# Altium integrated library Dallas Interface Terminator.IntLib: 14 symbols
Pins are listed as number, name and electrical type; pins without a type are passive.

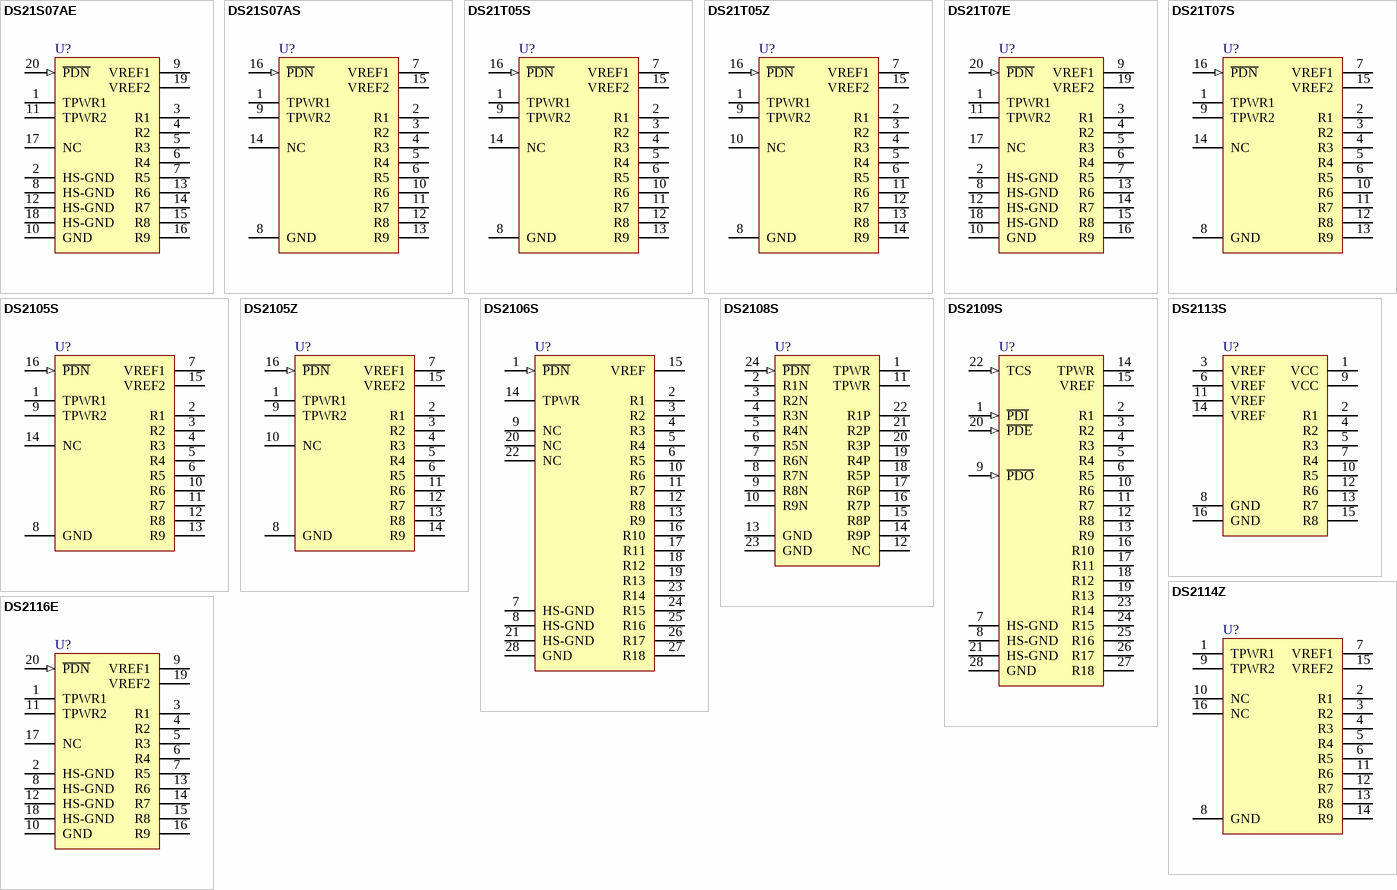
[diagram p0: symbols DS21S07AE to DS2116E]

## DS21S07AE
designator U?
SCSI Terminator; Note: Pin number 17 is Not Connected (NC); Published: 13-Oct-2000; LatestRevisionDate: 20-Nov-2009; LatestRevisionNote: IPC-7351 Footprint Added.; DatasheetVersion: 27-Feb-1998; PackageReference: TSSOP20; Publisher: Altium Limited; PackageDescription: 20-Pin Thin Small Outline Package 0.65 mm Pitch; ComponentLink1Description: Manufacturer Link; ComponentLink1URL: http://www.maxim-ic.com/; ComponentLink2Description: Datasheet; ComponentLink2URL: http://pdfserv.maxim-ic.com/en/ds/DS21S07A.pdf
footprint TSSOP20_N (TSOP, 20-Leads, Body 6.5x4.4mm, Pitch 0.65mm, IPC Medium Density)
footprint TSSOP20_L (TSOP, 20-Leads, Body 6.5x4.4mm, Pitch 0.65mm, IPC High Density)
footprint TSSOP20_M (TSOP, 20-Leads, Body 6.5x4.4mm, Pitch 0.65mm, IPC Low Density)
pins: 1 TPWR1 (power), 2 HS-GND (power), 3 R1, 4 R2, 5 R3, 6 R4, 7 R5, 8 HS-GND (power), 9 VREF1 (power), 10 GND (power), 11 TPWR2 (power), 12 HS-GND (power), 13 R6, 14 R7, 15 R8, 16 R9, 17 NC, 18 HS-GND (power), 19 VREF2 (power), 20 ~{PDN} (in)

## DS21S07AS
designator U?
SCSI Terminator; Note: Pin number 14 is Not Connected (NC); Published: 13-Oct-2000; LatestRevisionDate: 13-Apr-2006; LatestRevisionNote: IPC-7351 Footprint Added.; DatasheetVersion: 27-Feb-1998; PackageVersion: 1999; PackageReference: SOIC16W; Publisher: Altium Limited; PackageDescription: 16-Pin Small Outline Integrated Circuit 1.27 mm Pitch; ComponentLink1Description: Manufacturer Link; ComponentLink1URL: http://www.maxim-ic.com/; ComponentLink2Description: Datasheet; ComponentLink2URL: http://pdfserv.maxim-ic.com/en/ds/DS21S07A.pdf
footprint SOIC16W_N (SOIC, 16-Leads, Body 10.3x7.5mm, Pitch 1.27mm, IPC Medium Density)
footprint SOIC16W_L (SOIC, 16-Leads, Body 10.3x7.5mm, Pitch 1.27mm, IPC High Density)
footprint SOIC16W_M (SOIC, 16-Leads, Body 10.3x7.5mm, Pitch 1.27mm, IPC Low Density)
pins: 1 TPWR1 (power), 2 R1, 3 R2, 4 R3, 5 R4, 6 R5, 7 VREF1 (power), 8 GND (power), 9 TPWR2 (power), 10 R6, 11 R7, 12 R8, 13 R9, 14 NC, 15 VREF2 (power), 16 ~{PDN} (in)

## DS21T05S
designator U?
SCSI Terminator; Note: Pin number 14 is Not Connected (NC); Published: 13-Oct-2000; LatestRevisionDate: 13-Apr-2006; LatestRevisionNote: IPC-7351 Footprint Added.; DatasheetVersion: 27-Feb-1998; PackageVersion: 1999; PackageReference: SOIC16W; Publisher: Altium Limited; PackageDescription: 16-Pin Small Outline Integrated Circuit 1.27 mm Pitch; ComponentLink1Description: Manufacturer Link; ComponentLink1URL: http://www.maxim-ic.com/; ComponentLink2Description: Datasheet; ComponentLink2URL: http://pdfserv.maxim-ic.com/en/ds/DS21T05.pdf
footprint SOIC16W_N (SOIC, 16-Leads, Body 10.3x7.5mm, Pitch 1.27mm, IPC Medium Density)
footprint SOIC16W_L (SOIC, 16-Leads, Body 10.3x7.5mm, Pitch 1.27mm, IPC High Density)
footprint SOIC16W_M (SOIC, 16-Leads, Body 10.3x7.5mm, Pitch 1.27mm, IPC Low Density)
pins: 1 TPWR1 (power), 2 R1, 3 R2, 4 R3, 5 R4, 6 R5, 7 VREF1 (power), 8 GND (power), 9 TPWR2 (power), 10 R6, 11 R7, 12 R8, 13 R9, 14 NC, 15 VREF2 (power), 16 ~{PDN} (in)

## DS21T05Z
designator U?
SCSI Terminator; Note: Pin number 10 is Not Connected (NC); Published: 13-Oct-2000; LatestRevisionDate: 13-Apr-2006; LatestRevisionNote: IPC-7351 Footprint Added.; DatasheetVersion: 27-Feb-1998; PackageVersion: 1999; PackageReference: SOIC16N; Publisher: Altium Limited; PackageDescription: 16-Pin Small Outline Integrated Circuit 1.27 mm Pitch; Code_IPC: SOIC127P600-16; ComponentLink1Description: Manufacturer Link; ComponentLink1URL: http://www.maxim-ic.com/; ComponentLink2Description: Datasheet; ComponentLink2URL: http://pdfserv.maxim-ic.com/en/ds/DS21T05.pdf
footprint SOIC16N_N (SOIC, 16-Leads, Body 9.9x3.9mm, Pitch 1.27mm, IPC Medium Density)
footprint SOIC16N_L (SOIC, 16-Leads, Body 9.9x3.9mm, Pitch 1.27mm, IPC High Density)
footprint SOIC16N_M (SOIC, 16-Leads, Body 9.9x3.9mm, Pitch 1.27mm, IPC Low Density)
pins: 1 TPWR1 (power), 2 R1, 3 R2, 4 R3, 5 R4, 6 R5, 7 VREF1 (power), 8 GND (power), 9 TPWR2 (power), 10 NC, 11 R6, 12 R7, 13 R8, 14 R9, 15 VREF2 (power), 16 ~{PDN} (in)

## DS21T07E
designator U?
SCSI Terminator; Note: Pin number 17 is Not Connected (NC); Published: 13-Oct-2000; LatestRevisionDate: 20-Nov-2009; LatestRevisionNote: IPC-7351 Footprint Added.; DatasheetVersion: Jul-1998; PackageReference: TSSOP20; Publisher: Altium Limited; PackageDescription: 20-Pin Thin Small Outline Package 0.65 mm Pitch; ComponentLink1Description: Manufacturer Link; ComponentLink1URL: http://www.maxim-ic.com/; ComponentLink2Description: Datasheet; ComponentLink2URL: http://pdfserv.maxim-ic.com/en/ds/DS21T07.pdf
footprint TSSOP20_N (TSOP, 20-Leads, Body 6.5x4.4mm, Pitch 0.65mm, IPC Medium Density)
footprint TSSOP20_L (TSOP, 20-Leads, Body 6.5x4.4mm, Pitch 0.65mm, IPC High Density)
footprint TSSOP20_M (TSOP, 20-Leads, Body 6.5x4.4mm, Pitch 0.65mm, IPC Low Density)
pins: 1 TPWR1 (power), 2 HS-GND (power), 3 R1, 4 R2, 5 R3, 6 R4, 7 R5, 8 HS-GND (power), 9 VREF1 (power), 10 GND (power), 11 TPWR2 (power), 12 HS-GND (power), 13 R6, 14 R7, 15 R8, 16 R9, 17 NC, 18 HS-GND (power), 19 VREF2 (power), 20 ~{PDN} (in)

## DS21T07S
designator U?
SCSI Terminator; Note: Pin number 14 is Not Connected (NC); Published: 13-Oct-2000; LatestRevisionDate: 13-Apr-2006; LatestRevisionNote: IPC-7351 Footprint Added.; DatasheetVersion: Jul-1998; PackageVersion: 1999; PackageReference: SOIC16W; Publisher: Altium Limited; PackageDescription: 16-Pin Small Outline Integrated Circuit 1.27 mm Pitch; ComponentLink1Description: Manufacturer Link; ComponentLink1URL: http://www.maxim-ic.com/; ComponentLink2Description: Datasheet; ComponentLink2URL: http://pdfserv.maxim-ic.com/en/ds/DS21T07.pdf
footprint SOIC16W_N (SOIC, 16-Leads, Body 10.3x7.5mm, Pitch 1.27mm, IPC Medium Density)
footprint SOIC16W_L (SOIC, 16-Leads, Body 10.3x7.5mm, Pitch 1.27mm, IPC High Density)
footprint SOIC16W_M (SOIC, 16-Leads, Body 10.3x7.5mm, Pitch 1.27mm, IPC Low Density)
pins: 1 TPWR1 (power), 2 R1, 3 R2, 4 R3, 5 R4, 6 R5, 7 VREF1 (power), 8 GND (power), 9 TPWR2 (power), 10 R6, 11 R7, 12 R8, 13 R9, 14 NC, 15 VREF2 (power), 16 ~{PDN} (in)

## DS2105S
designator U?
SCSI Terminator; Note: Pin number 14 is Not Connected (NC); Published: 13-Oct-2000; LatestRevisionDate: 13-Apr-2006; LatestRevisionNote: IPC-7351 Footprint Added.; DatasheetVersion: 26-Feb-1998; PackageVersion: 1999; PackageReference: SOIC16W; Publisher: Altium Limited; PackageDescription: 16-Pin Small Outline Integrated Circuit 1.27 mm Pitch; ComponentLink1Description: Manufacturer Link; ComponentLink1URL: http://www.maxim-ic.com/; ComponentLink2Description: Datasheet; ComponentLink2URL: http://pdfserv.maxim-ic.com/en/ds/DS2105.pdf; ComponentLink3Description: Discontinuation Notice; ComponentLink3URL: http://www.maxim-ic.com/qa/pdfs/non-obsolescence-letter.pdf
footprint SOIC16W_N (SOIC, 16-Leads, Body 10.3x7.5mm, Pitch 1.27mm, IPC Medium Density)
footprint SOIC16W_L (SOIC, 16-Leads, Body 10.3x7.5mm, Pitch 1.27mm, IPC High Density)
footprint SOIC16W_M (SOIC, 16-Leads, Body 10.3x7.5mm, Pitch 1.27mm, IPC Low Density)
pins: 1 TPWR1 (power), 2 R1, 3 R2, 4 R3, 5 R4, 6 R5, 7 VREF1 (power), 8 GND (power), 9 TPWR2 (power), 10 R6, 11 R7, 12 R8, 13 R9, 14 NC, 15 VREF2 (power), 16 ~{PDN} (in)

## DS2105Z
designator U?
SCSI Terminator; Note: Pin number 10 is Not Connected (NC); Published: 13-Oct-2000; LatestRevisionDate: 13-Apr-2006; LatestRevisionNote: IPC-7351 Footprint Added.; DatasheetVersion: 26-Feb-1998; PackageVersion: 1999; PackageReference: SOIC16N; Publisher: Altium Limited; PackageDescription: 16-Pin Small Outline Integrated Circuit 1.27 mm Pitch; Code_IPC: SOIC127P600-16; ComponentLink1Description: Manufacturer Link; ComponentLink1URL: http://www.maxim-ic.com/; ComponentLink2Description: Datasheet; ComponentLink2URL: http://pdfserv.maxim-ic.com/en/ds/DS2105.pdf; ComponentLink3Description: Discontinuation Notice; ComponentLink3URL: http://www.maxim-ic.com/qa/pdfs/non-obsolescence-letter.pdf
footprint SOIC16N_N (SOIC, 16-Leads, Body 9.9x3.9mm, Pitch 1.27mm, IPC Medium Density)
footprint SOIC16N_L (SOIC, 16-Leads, Body 9.9x3.9mm, Pitch 1.27mm, IPC High Density)
footprint SOIC16N_M (SOIC, 16-Leads, Body 9.9x3.9mm, Pitch 1.27mm, IPC Low Density)
pins: 1 TPWR1 (power), 2 R1, 3 R2, 4 R3, 5 R4, 6 R5, 7 VREF1 (power), 8 GND (power), 9 TPWR2 (power), 10 NC, 11 R6, 12 R7, 13 R8, 14 R9, 15 VREF2 (power), 16 ~{PDN} (in)

## DS2106S
designator U?
SCSI Terminator; Note: Pin numbers 9, 20 and 22 are Not Connected (NC); Published: 13-Oct-2000; LatestRevisionDate: 13-Apr-2006; LatestRevisionNote: IPC-7351 Footprint Added.; DatasheetVersion: 26-Feb-1998; PackageVersion: 1999; PackageReference: SOIC28N; Publisher: Altium Limited; PackageDescription: 28-Pin Small Outline Integrated Circuit 1.27 mm Pitch; ComponentLink1Description: Manufacturer Link; ComponentLink1URL: http://www.maxim-ic.com/; ComponentLink2Description: Datasheet; ComponentLink2URL: http://pdfserv.maxim-ic.com/en/ds/DS2106.pdf; ComponentLink3Description: Discontinuation Notice; ComponentLink3URL: http://www.maxim-ic.com/qa/pdfs/non-obsolescence-letter.pdf
footprint SOIC28N_N (SOIC, 28-Leads, Body 17.9x7.5mm, Pitch 1.27mm, IPC Medium Density)
footprint SOIC28N_L (SOIC, 28-Leads, Body 17.9x7.5mm, Pitch 1.27mm, IPC High Density)
footprint SOIC28N_M (SOIC, 28-Leads, Body 17.9x7.5mm, Pitch 1.27mm, IPC Low Density)
pins: 1 ~{PDN} (in), 2 R1, 3 R2, 4 R3, 5 R4, 6 R5, 7 HS-GND (power), 8 HS-GND (power), 9 NC, 10 R6, 11 R7, 12 R8, 13 R9, 14 TPWR (power), 15 VREF, 16 R10, 17 R11, 18 R12, 19 R13, 20 NC, 21 HS-GND (power), 22 NC, 23 R14, 24 R15, 25 R16, 26 R17, 27 R18, 28 GND (power)

## DS2108S
designator U?
Differential SCSI Switchable Terminator; Note: Pin number 12 is Not Connected (NC); Published: 13-Oct-2000; LatestRevisionDate: 13-Apr-2006; LatestRevisionNote: IPC-7351 Footprint Added.; DatasheetVersion: 26-Feb-1998; PackageVersion: 1999; PackageReference: SOIC24N; Publisher: Altium Limited; PackageDescription: 24-Pin Small Outline Integrated Circuit 1.27 mm Pitch; Code_IPC: SOIC127P1047-24; ComponentLink1Description: Manufacturer Link; ComponentLink1URL: http://www.maxim-ic.com/; ComponentLink2Description: Datasheet; ComponentLink2URL: http://pdfserv.maxim-ic.com/en/ds/DS2108.pdf; ComponentLink3Description: Discontinuation Notice; ComponentLink3URL: http://www.maxim-ic.com/qa/pdfs/non-obsolescence-letter.pdf
footprint SOIC24N_N (SOIC, 24-Leads, Body 15.4x7.5mm, Pitch 1.27mm, IPC Medium Density)
footprint SOIC24N_L (SOIC, 24-Leads, Body 15.4x7.5mm, Pitch 1.27mm, IPC High Density)
footprint SOIC24N_M (SOIC, 24-Leads, Body 15.4x7.5mm, Pitch 1.27mm, IPC Low Density)
pins: 1 TPWR (power), 2 R1N, 3 R2N, 4 R3N, 5 R4N, 6 R5N, 7 R6N, 8 R7N, 9 R8N, 10 R9N, 11 TPWR (power), 12 NC, 13 GND (power), 14 R9P, 15 R8P, 16 R7P, 17 R6P, 18 R5P, 19 R4P, 20 R3P, 21 R2P, 22 R1P, 23 GND (power), 24 ~{PDN} (in)

## DS2109S
designator U?
Plug and Play SCSI Terminator; Published: 13-Oct-2000; LatestRevisionDate: 13-Apr-2006; LatestRevisionNote: IPC-7351 Footprint Added.; DatasheetVersion: 26-Feb-1998; PackageVersion: 1999; PackageReference: SOIC28N; Publisher: Altium Limited; PackageDescription: 28-Pin Small Outline Integrated Circuit 1.27 mm Pitch; ComponentLink1Description: Manufacturer Link; ComponentLink1URL: http://www.maxim-ic.com/; ComponentLink2Description: Datasheet; ComponentLink2URL: http://pdfserv.maxim-ic.com/en/ds/DS2109.pdf; ComponentLink3Description: Discontinuation Notice; ComponentLink3URL: http://www.maxim-ic.com/qa/pdfs/non-obsolescence-letter.pdf
footprint SOIC28N_N (SOIC, 28-Leads, Body 17.9x7.5mm, Pitch 1.27mm, IPC Medium Density)
footprint SOIC28N_L (SOIC, 28-Leads, Body 17.9x7.5mm, Pitch 1.27mm, IPC High Density)
footprint SOIC28N_M (SOIC, 28-Leads, Body 17.9x7.5mm, Pitch 1.27mm, IPC Low Density)
pins: 1 ~{PDI} (in), 2 R1, 3 R2, 4 R3, 5 R4, 6 R5, 7 HS-GND (power), 8 HS-GND (power), 9 ~{PDO} (in), 10 R6, 11 R7, 12 R8, 13 R9, 14 TPWR (power), 15 VREF (power), 16 R10, 17 R11, 18 R12, 19 R13, 20 ~{PDE} (in), 21 HS-GND (power), 22 TCS (in), 23 R14, 24 R15, 25 R16, 26 R17, 27 R18, 28 GND (power)

## DS2113S
designator U?
GTL Terminator; Published: 13-Oct-2000; LatestRevisionDate: 13-Apr-2006; LatestRevisionNote: IPC-7351 Footprint Added.; DatasheetVersion: 26-Feb-1998; PackageVersion: 1999; PackageReference: SOIC16W; Publisher: Altium Limited; PackageDescription: 16-Pin Small Outline Integrated Circuit 1.27 mm Pitch; ComponentLink1Description: Manufacturer Link; ComponentLink1URL: http://www.maxim-ic.com/
footprint SOIC16W_N (SOIC, 16-Leads, Body 10.3x7.5mm, Pitch 1.27mm, IPC Medium Density)
footprint SOIC16W_L (SOIC, 16-Leads, Body 10.3x7.5mm, Pitch 1.27mm, IPC High Density)
footprint SOIC16W_M (SOIC, 16-Leads, Body 10.3x7.5mm, Pitch 1.27mm, IPC Low Density)
pins: 1 VCC (power), 2 R1, 3 VREF (power), 4 R2, 5 R3, 6 VREF (power), 7 R4, 8 GND (power), 9 VCC (power), 10 R5, 11 VREF (power), 12 R6, 13 R7, 14 VREF (power), 15 R8, 16 GND (power)

## DS2114Z
designator U?
SCSI Terminator; Note: Pin numbers 10 and 16 are Not Connected (NC); Published: 13-Oct-2000; LatestRevisionDate: 13-Apr-2006; LatestRevisionNote: IPC-7351 Footprint Added.; DatasheetVersion: Jul-1998; PackageVersion: 1999; PackageReference: SOIC16N; Publisher: Altium Limited; PackageDescription: 16-Pin Small Outline Integrated Circuit 1.27 mm Pitch; Code_IPC: SOIC127P600-16; ComponentLink1Description: Manufacturer Link; ComponentLink1URL: http://www.maxim-ic.com/; ComponentLink2Description: Datasheet; ComponentLink2URL: http://pdfserv.maxim-ic.com/en/ds/DS2114.pdf
footprint SOIC16N_N (SOIC, 16-Leads, Body 9.9x3.9mm, Pitch 1.27mm, IPC Medium Density)
footprint SOIC16N_L (SOIC, 16-Leads, Body 9.9x3.9mm, Pitch 1.27mm, IPC High Density)
footprint SOIC16N_M (SOIC, 16-Leads, Body 9.9x3.9mm, Pitch 1.27mm, IPC Low Density)
pins: 1 TPWR1 (power), 2 R1, 3 R2, 4 R3, 5 R4, 6 R5, 7 VREF1 (power), 8 GND (power), 9 TPWR2 (power), 10 NC, 11 R6, 12 R7, 13 R8, 14 R9, 15 VREF2 (power), 16 NC

## DS2116E
designator U?
SCSI Terminator; Note: Pin number 17 is Not Connected (NC); Published: 13-Oct-2000; LatestRevisionDate: 20-Nov-2009; LatestRevisionNote: IPC-7351 Footprint Added.; DatasheetVersion: 26-Feb-1998; PackageReference: TSSOP20; Publisher: Altium Limited; PackageDescription: 20-Pin Thin Small Outline Package 0.65 mm Pitch; ComponentLink1Description: Manufacturer Link; ComponentLink1URL: http://www.maxim-ic.com/
footprint TSSOP20_N (TSOP, 20-Leads, Body 6.5x4.4mm, Pitch 0.65mm, IPC Medium Density)
footprint TSSOP20_L (TSOP, 20-Leads, Body 6.5x4.4mm, Pitch 0.65mm, IPC High Density)
footprint TSSOP20_M (TSOP, 20-Leads, Body 6.5x4.4mm, Pitch 0.65mm, IPC Low Density)
pins: 1 TPWR1 (power), 2 HS-GND (power), 3 R1, 4 R2, 5 R3, 6 R4, 7 R5, 8 HS-GND (power), 9 VREF1 (power), 10 GND (power), 11 TPWR2 (power), 12 HS-GND (power), 13 R6, 14 R7, 15 R8, 16 R9, 17 NC, 18 HS-GND (power), 19 VREF2 (power), 20 ~{PDN} (in)